# Altium integrated library Analog Devices Data Converters Analog-to-Digital Converters.IntLib: 2400 symbols (part 65 of 338)
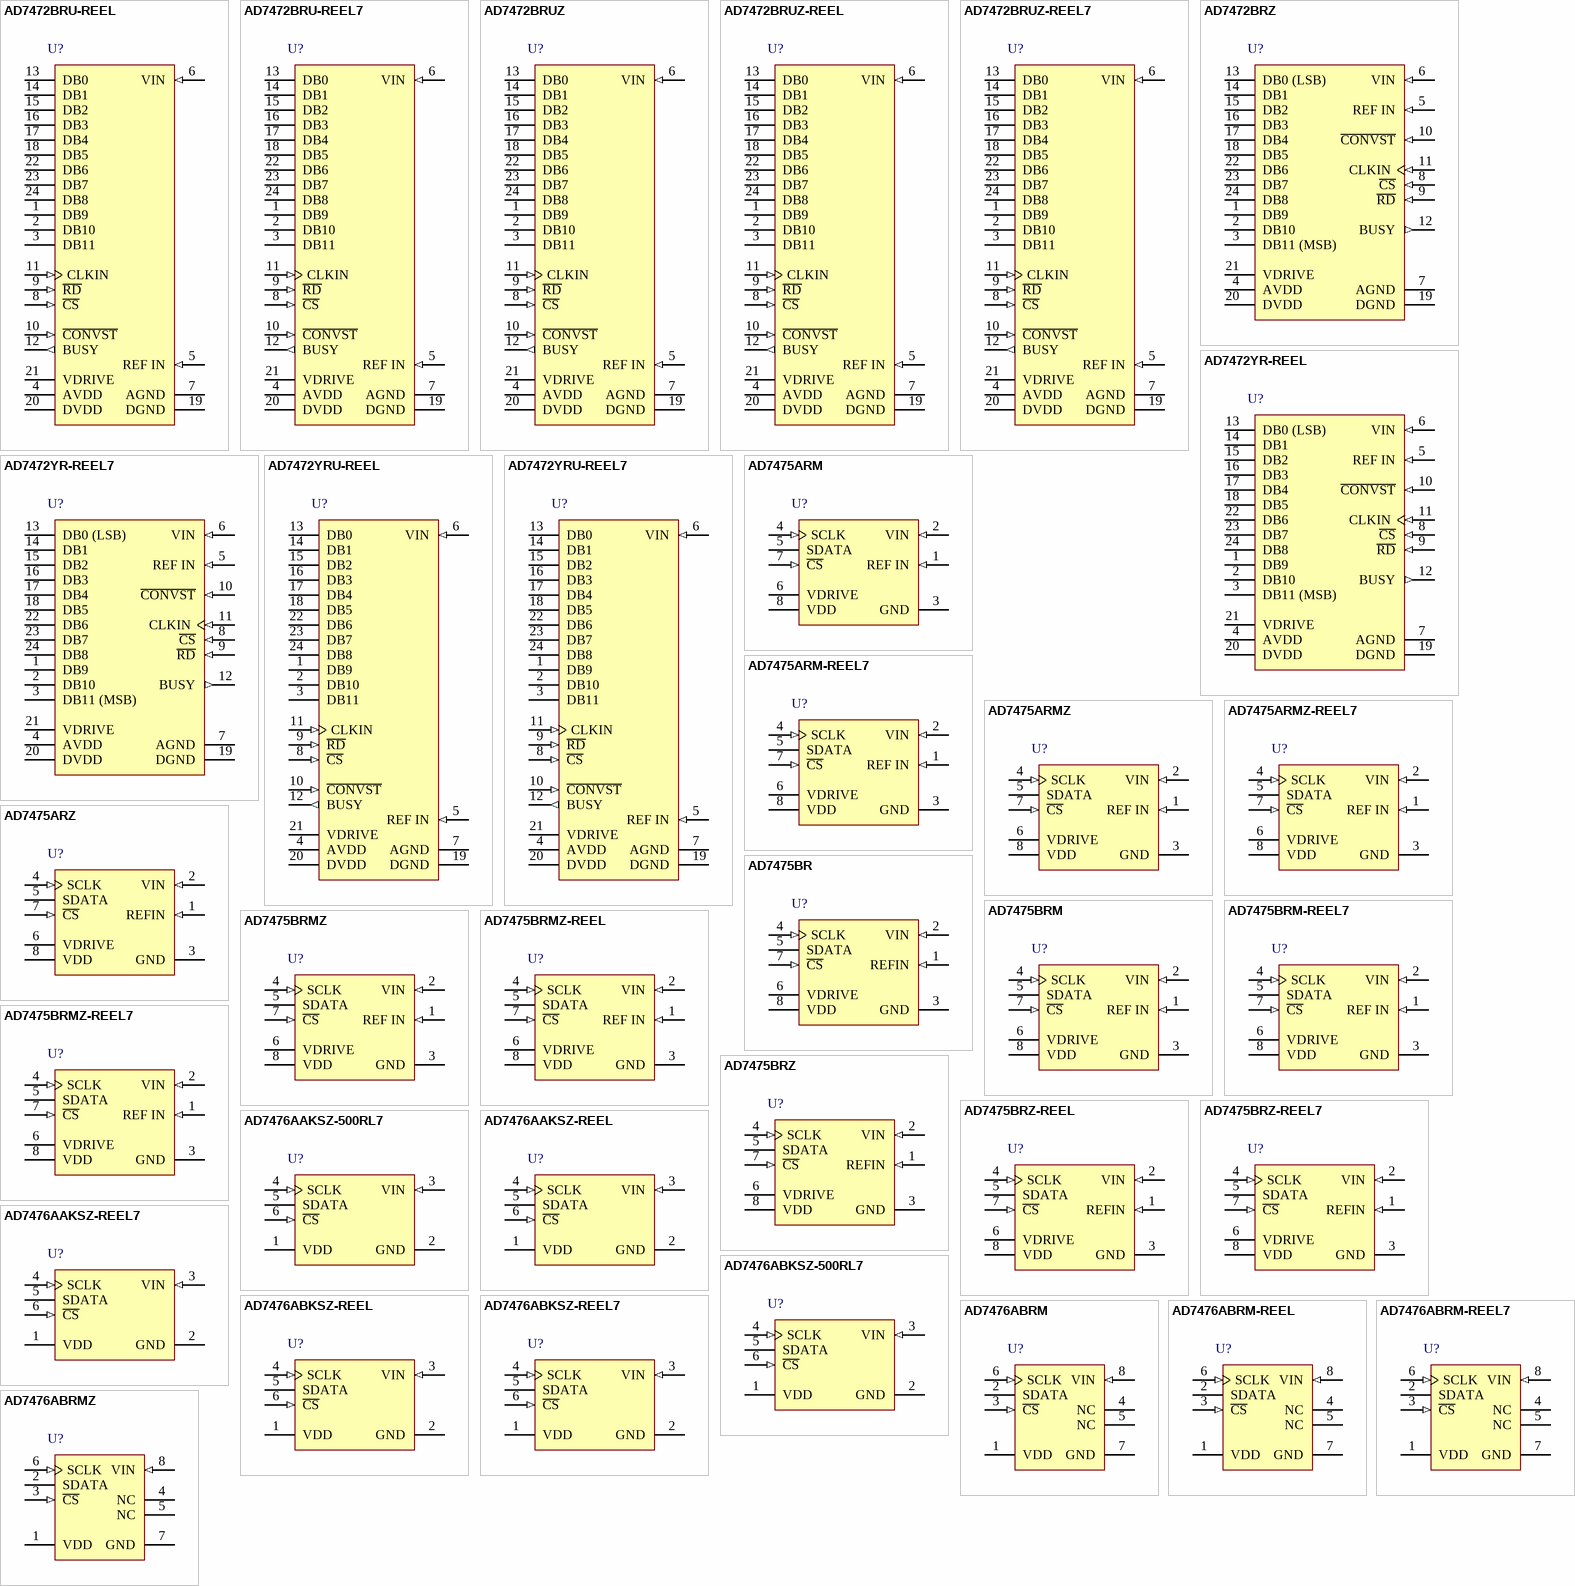
[diagram p292: symbols AD7472BRU-REEL to AD7476ABRMZ]

## AD7475ARM
designator U?
Single 12-Bit Analog-to-Digital Converter with Serial Interface, 1MSPS, -40 to +85 degC, RM-8, Tube; Part Number: AD7475; Manufacturer: Analog Devices; Resolution (Bits): 12; Channels: 1; Throughput Rate (SPS): 1M; Interface: Ser; DatasheetVersion: Rev.B; PackageVersion: Aug-2005; PackageReference: RM-8; PackageDescription: 8-Lead Mini Small Outline Package [MSOP]; RoHS: N; Packing: Tube; Mounting Technology: Surface Mount; Code_JEDEC: MO-187-AA; ComponentLink1Description: Manufacturer URL; ComponentLink1URL: http://www.analog.com/en/index.html; ComponentLink2Description: Datasheet; ComponentLink2URL: http://www.analog.com/static/imported-files/data_sheets/AD7475_7495.pdf; ComponentLink3Description: Package Specification; ComponentLink3URL: http://www.analog.com/static/imported-files/packages/PKG_PDF/MSOP%28RM%29/RM_8.pdf; ComponentLink4Description: Product URL; ComponentLink4URL: http://www.analog.com/en/analog-to-digital-converters/ad-converters/ad7475/products/product.html
footprint RM-8_N (TSOP, 8-Leads, Body 3x3mm, Pitch 0.65mm, IPC Medium Density)
footprint RM-8_L (TSOP, 8-Leads, Body 3x3mm, Pitch 0.65mm, IPC High Density)
footprint RM-8_M (TSOP, 8-Leads, Body 3x3mm, Pitch 0.65mm, IPC Low Density)
pins: 1 REF IN (in) "Reference Input for the AD7475. An external reference must be applied to this input. The voltage range for the external reference is 2.5 V +/- 1% for specified performance. A cap of a least 0.1 uF should be placed on the REF (See Datasheet)", 2 VIN (in) "Analog Input. Single-ended analog input channel. The input range is 0 to REF IN.", 3 GND (power) "Analog Ground. Ground reference point for all circuitry on the AD7475/AD7495. All analog input signals and any external reference signal should be referred to this GND voltage.", 4 SCLK (in) "Serial Clock, Logic Input. SCLK provides the serial clock for accessing data from the part. This clock input is also used as the clock source for the AD7475/AD7495 conversion process.", 5 SDATA (hiz) "Data Out, Logic Output. The conversion result from the AD7475/AD7495 is provided on this output as a serial data stream. The bits are clocked out on the falling edge of the SCLK input. The data stream consists of four (See Datasheet)", 6 VDRIVE (power) "Logic Power Supply Input. The voltage supplied at this pin determines the operating voltage for the serial interface of the AD7475/AD7495.", 7 ~{CS} (in) "Chip Select, Active Low Logic Input. This input provides the dual function of initiating conversions on the AD7475/AD7495 and also frames the serial data transfer.", 8 VDD (power) "Power Supply Input. The VDD range for the AD7475/AD7495 is from 2.7 V to 5.25 V."

## AD7475ARM-REEL7
designator U?
Single 12-Bit Analog-to-Digital Converter with Serial Interface, 1MSPS, -40 to +85 degC, RM-8, Reel; Part Number: AD7475; Manufacturer: Analog Devices; Resolution (Bits): 12; Channels: 1; Throughput Rate (SPS): 1M; Interface: Ser; DatasheetVersion: Rev.B; PackageVersion: Aug-2005; PackageReference: RM-8; PackageDescription: 8-Lead Mini Small Outline Package [MSOP]; RoHS: N; Packing: Reel; Mounting Technology: Surface Mount; Code_JEDEC: MO-187-AA; ComponentLink1Description: Manufacturer URL; ComponentLink1URL: http://www.analog.com/en/index.html; ComponentLink2Description: Datasheet; ComponentLink2URL: http://www.analog.com/static/imported-files/data_sheets/AD7475_7495.pdf; ComponentLink3Description: Package Specification; ComponentLink3URL: http://www.analog.com/static/imported-files/packages/PKG_PDF/MSOP%28RM%29/RM_8.pdf; ComponentLink4Description: Product URL; ComponentLink4URL: http://www.analog.com/en/analog-to-digital-converters/ad-converters/ad7475/products/product.html
footprint RM-8_N (TSOP, 8-Leads, Body 3x3mm, Pitch 0.65mm, IPC Medium Density)
footprint RM-8_L (TSOP, 8-Leads, Body 3x3mm, Pitch 0.65mm, IPC High Density)
footprint RM-8_M (TSOP, 8-Leads, Body 3x3mm, Pitch 0.65mm, IPC Low Density)
pins: 1 REF IN (in) "Reference Input for the AD7475. An external reference must be applied to this input. The voltage range for the external reference is 2.5 V +/- 1% for specified performance. A cap of a least 0.1 uF should be placed on the REF (See Datasheet)", 2 VIN (in) "Analog Input. Single-ended analog input channel. The input range is 0 to REF IN.", 3 GND (power) "Analog Ground. Ground reference point for all circuitry on the AD7475/AD7495. All analog input signals and any external reference signal should be referred to this GND voltage.", 4 SCLK (in) "Serial Clock, Logic Input. SCLK provides the serial clock for accessing data from the part. This clock input is also used as the clock source for the AD7475/AD7495 conversion process.", 5 SDATA (hiz) "Data Out, Logic Output. The conversion result from the AD7475/AD7495 is provided on this output as a serial data stream. The bits are clocked out on the falling edge of the SCLK input. The data stream consists of four (See Datasheet)", 6 VDRIVE (power) "Logic Power Supply Input. The voltage supplied at this pin determines the operating voltage for the serial interface of the AD7475/AD7495.", 7 ~{CS} (in) "Chip Select, Active Low Logic Input. This input provides the dual function of initiating conversions on the AD7475/AD7495 and also frames the serial data transfer.", 8 VDD (power) "Power Supply Input. The VDD range for the AD7475/AD7495 is from 2.7 V to 5.25 V."

## AD7475ARMZ
designator U?
Single 12-Bit Analog-to-Digital Converter with Serial Interface, 1MSPS, -40 to +85 degC, RM-8, Pb-Free, Tube; Part Number: AD7475; Manufacturer: Analog Devices; Resolution (Bits): 12; Channels: 1; Throughput Rate (SPS): 1M; Interface: Ser; DatasheetVersion: Rev.B; PackageVersion: Aug-2005; PackageReference: RM-8; PackageDescription: 8-Lead Mini Small Outline Package [MSOP]; RoHS: Y; Packing: Tube; Mounting Technology: Surface Mount; Code_JEDEC: MO-187-AA; ComponentLink1Description: Manufacturer URL; ComponentLink1URL: http://www.analog.com/en/index.html; ComponentLink2Description: Datasheet; ComponentLink2URL: http://www.analog.com/static/imported-files/data_sheets/AD7475_7495.pdf; ComponentLink3Description: Package Specification; ComponentLink3URL: http://www.analog.com/static/imported-files/packages/PKG_PDF/MSOP%28RM%29/RM_8.pdf; ComponentLink4Description: Product URL; ComponentLink4URL: http://www.analog.com/en/analog-to-digital-converters/ad-converters/ad7475/products/product.html
footprint RM-8_N (TSOP, 8-Leads, Body 3x3mm, Pitch 0.65mm, IPC Medium Density)
footprint RM-8_L (TSOP, 8-Leads, Body 3x3mm, Pitch 0.65mm, IPC High Density)
footprint RM-8_M (TSOP, 8-Leads, Body 3x3mm, Pitch 0.65mm, IPC Low Density)
pins: 1 REF IN (in) "Reference Input for the AD7475. An external reference must be applied to this input. The voltage range for the external reference is 2.5 V +/- 1% for specified performance. A cap of a least 0.1 uF should be placed on the REF (See Datasheet)", 2 VIN (in) "Analog Input. Single-ended analog input channel. The input range is 0 to REF IN.", 3 GND (power) "Analog Ground. Ground reference point for all circuitry on the AD7475/AD7495. All analog input signals and any external reference signal should be referred to this GND voltage.", 4 SCLK (in) "Serial Clock, Logic Input. SCLK provides the serial clock for accessing data from the part. This clock input is also used as the clock source for the AD7475/AD7495 conversion process.", 5 SDATA (hiz) "Data Out, Logic Output. The conversion result from the AD7475/AD7495 is provided on this output as a serial data stream. The bits are clocked out on the falling edge of the SCLK input. The data stream consists of four (See Datasheet)", 6 VDRIVE (power) "Logic Power Supply Input. The voltage supplied at this pin determines the operating voltage for the serial interface of the AD7475/AD7495.", 7 ~{CS} (in) "Chip Select, Active Low Logic Input. This input provides the dual function of initiating conversions on the AD7475/AD7495 and also frames the serial data transfer.", 8 VDD (power) "Power Supply Input. The VDD range for the AD7475/AD7495 is from 2.7 V to 5.25 V."